# EAGLE library part ATMEGA32U4 (library deiring-components)
Microcontroller
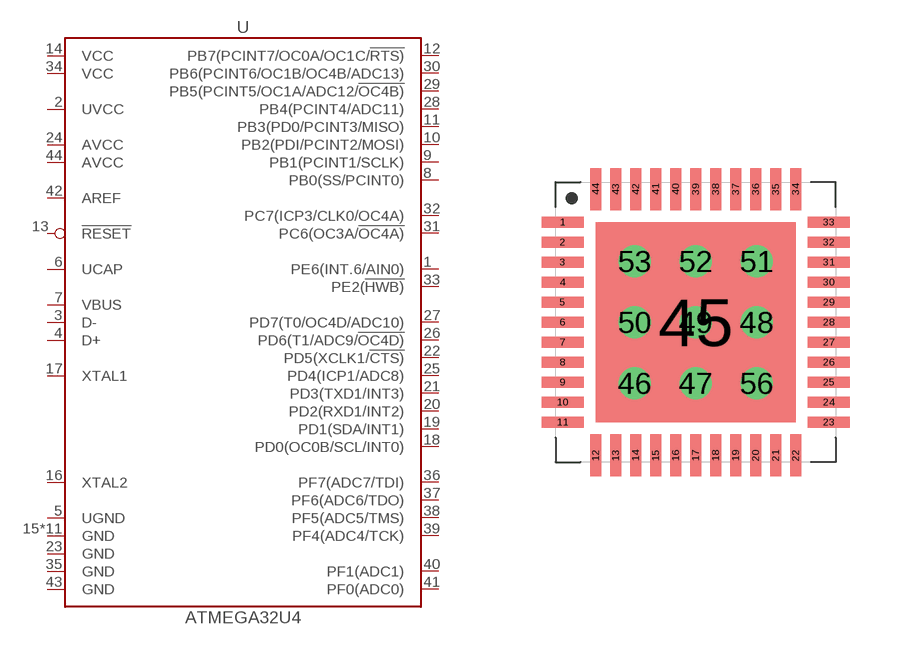
[diagram p20: symbol with the pads of QFN-44; footprint QFN-44]

Designator prefix U

## ATMEGA32U4-QFN-44 (LCSC: C45874; MF: Microchip Tech; MPN: ATMEGA32U4-MUR; VALUE: ATMEGA32U4)  [QFN-44]
1  PE6(INT.6/AIN0)
2  UVCC  pwr
3  D-
4  D+
5  UGND  pwr
6  UCAP
7  VBUS
8  PB0(SS/PCINT0)
9  PB1(PCINT1/SCLK)
10  PB2(PDI/PCINT2/MOSI)
11  PB3(PD0/PCINT3/MISO)
12  PB7(PCINT7/OC0A/OC1C/!RTS)
13  !RESET
14  VCC  pwr
15  GND  pwr
16  XTAL2
17  XTAL1
18  PD0(OC0B/SCL/INT0)
19  PD1(SDA/INT1)
20  PD2(RXD1/INT2)
21  PD3(TXD1/INT3)
22  PD5(XCLK1/!CTS)
23  GND  pwr
24  AVCC  pwr
25  PD4(ICP1/ADC8)
26  PD6(T1/ADC9/!OC4D)
27  PD7(T0/OC4D/ADC10)
28  PB4(PCINT4/ADC11)
29  PB5(PCINT5/OC1A/ADC12/!OC4B)
30  PB6(PCINT6/OC1B/OC4B/ADC13)
31  PC6(OC3A/!OC4A)
32  PC7(ICP3/CLK0/OC4A)
33  PE2(!HWB)
34  VCC  pwr
35  GND  pwr
36  PF7(ADC7/TDI)
37  PF6(ADC6/TDO)
38  PF5(ADC5/TMS)
39  PF4(ADC4/TCK)
40  PF1(ADC1)
41  PF0(ADC0)
42  AREF
43  GND  pwr
44  AVCC  pwr
45  GND  pwr
46  GND  pwr
47  GND  pwr
48  GND  pwr
49  GND  pwr
50  GND  pwr
51  GND  pwr
52  GND  pwr
53  GND  pwr
56  GND  pwr

## Footprint QFN-44 (pad centres in mm)
smd 1.053 x 0.264: 1 -3.329,2.5; 2 -3.329,2; 3 -3.329,1.5; 4 -3.329,1; 5 -3.329,0.5; 6 -3.329,0; 7 -3.329,-0.5; 8 -3.329,-1; 9 -3.329,-1.5; 10 -3.329,-2; 11 -3.329,-2.5; 23 3.329,-2.5; 24 3.329,-2; 25 3.329,-1.5; 26 3.329,-1; 27 3.329,-0.5; 28 3.329,0; 29 3.329,0.5; 30 3.329,1; 31 3.329,1.5; 32 3.329,2; 33 3.329,2.5
smd 0.264 x 1.053: 12 -2.5,-3.329; 13 -2,-3.329; 14 -1.5,-3.329; 15 -1,-3.329; 16 -0.5,-3.329; 17 0,-3.329; 18 0.5,-3.329; 19 1,-3.329; 20 1.5,-3.329; 21 2,-3.329; 22 2.5,-3.329; 34 2.5,3.329; 35 2,3.329; 36 1.5,3.329; 37 1,3.329; 38 0.5,3.329; 39 0,3.329; 40 -0.5,3.329; 41 -1,3.329; 42 -1.5,3.329; 43 -2,3.329; 44 -2.5,3.329
smd 5 x 5: 45 0,0
drill 0.3 pad 0.5: 46 -1.524,-1.524; 47 0,-1.524; 48 1.524,0; 49 0,0; 50 -1.524,0; 51 1.524,1.524; 52 0,1.524; 53 -1.524,1.524; 56 1.524,-1.524